# Altium schematic symbol library lib_eps.SchLib: 181 symbols (part 1 of 2)
Pins are listed as number, name and electrical type; pins without a type are passive.

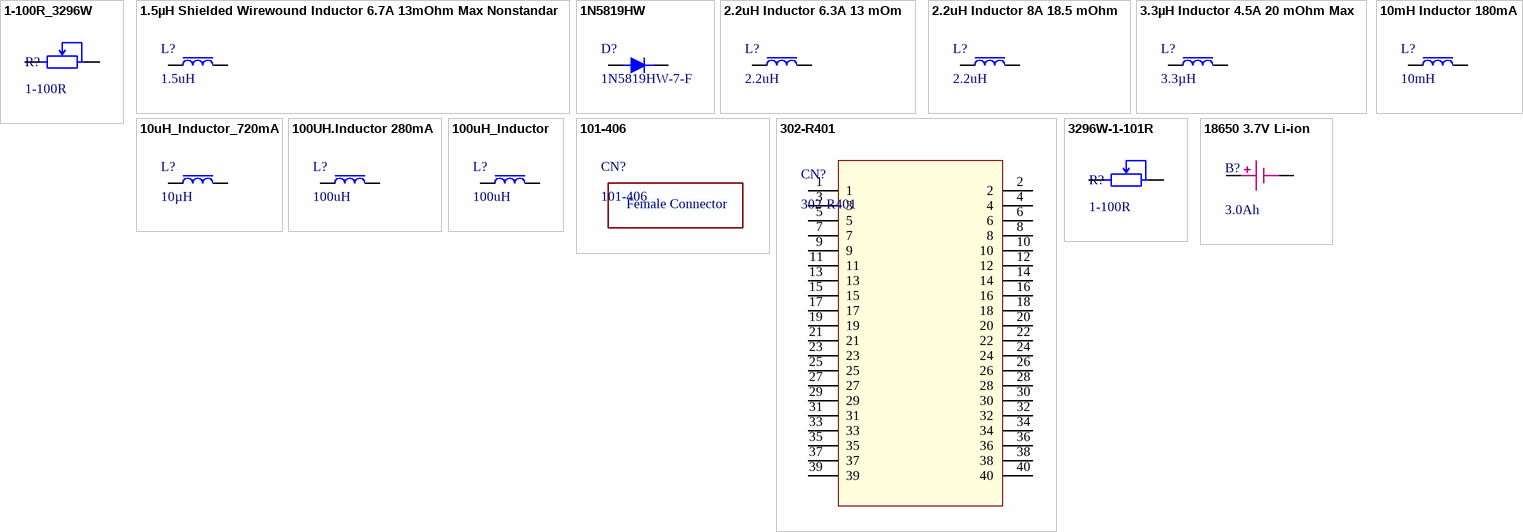
[diagram p0: symbols 1-100R_3296W to 18650 3.7V Li-ion]

## 1-100R_3296W
designator R?, comment 1-100R
TRIMMER 100 OHM 0.5W PC PIN TOP; Manufacturer: Bourns Inc.; Manufacturer Part Number: 3296W-1-101LF; Tolarance: 10%; Value: 1-100R; Supplier 1: Digi-Key; Supplier Part Number 1: 3296W-101LF-ND
footprint 3296W_POT (Rectangular - 0.375" x 0.190" Face x 0.395" H (9.53mm x 4.83mm x 10.03mm))
pins: 1, 2

## 1.5µH Shielded Wirewound Inductor 6.7A 13mOhm Max Nonstandard
designator L?, comment 1.5uH
FIXED IND 1.5UH 6.7A 13 MOHM SMD; Manufacturer: TDK Corporation; Manufacturer Part Number: VLP8040T-1R5N; Value: 1.5uH; Supplier 1: Digi-Key; Supplier Part Number 1: 445-6575-1-ND
footprint INDP8687X40N-(VLP8040 ) (Precision Wire Wound Inductor, 2-Leads, Body 8,60x8,70mm, IPC Medium Density)
pins: 1, 2

## 1N5819HW
designator D?, comment 1N5819HW-7-F
DIODE SCHOTTKY 40V 1A SOD123; Manufacturer: Diodes Incorporated; Manufacturer Part Number: 1N5819HW-7-F; Voltage - DC Reverse (Vr) (Max): 40V; Supplier 1: Digi-Key; Supplier Part Number 1: 1N5819HW-FDICT-ND; Current - Average Rectified (Io): 1A
footprint 1N5819HW_SODFL370X135-2N (SODFL, 2-Leads, Body 1,55x3,70mm, IPC Medium Density)
pins: 1, 2

## 2.2uH Inductor 6.3A 13 mOm
designator L?, comment 2.2uH
2.2µH Semi-Shielded Wirewound Inductor 6.3A 13 mOhm Max Nonstandard; Manufacturer: Bourns Inc.; Manufacturer Part Number: SRN8040-2R2Y; Value: 2.2uH; Supplier 1: Digi-Key; Supplier Part Number 1: SRN8040-2R2YCT-ND
footprint 2.2uF_6.3A (0.315" L x 0.315" W (8.00mm x 8.00mm) 6.3A)
pins: 1, 2

## 2.2uH Inductor 8A 18.5 mOhm
designator L?, comment 2.2uH
FIXED IND 2.2UH 8A 18.5 MOHM SMD; Manufacturer: Abracon LLC; Manufacturer Part Number: ASPI-0630LR-2R2M-T15; Value: 2.2uH; Supplier 1: Digi-Key; Supplier Part Number 1: ASPI-0630LR-2R2M-T15CT-ND
footprint 2.2uF_10A (0.283" L x 0.262" W (7.20mm x 6.65mm) 2.2UH 8A)
pins: 1, 2

## 3.3µH Inductor 4.5A 20 mOhm Max
designator L?, comment 3.3µH
FIXED IND 3.3UH 4.5A 20 MOHM SMD; Manufacturer: Bourns Inc.; Manufacturer Part Number: SDR0805-3R3ML; Value: 3.3µH; Supplier 1: Digi-Key; Supplier Part Number 1: SDR0805-3R3MLCT-ND
footprint SDR0805_3R3ML (3.3µH Unshielded Wirewound Inductor 4.5A 20 mOhm Max Nonstandard)
pins: 1, 2

## 10mH Inductor 180mA
designator L?, comment 10mH
10mH Shielded Wirewound Inductor 180mA 19.2 Ohm Max Nonstandard; Manufacturer: Bourns Inc.; Manufacturer Part Number: SRR1208-103KL; Value: 10mH; Supplier 1: Digi-Key; Supplier Part Number 1: SRR1208-103KLCT-ND
footprint IND10mH_12.7X12.7 (Precision Wire Wound Inductor, 2-Leads, Body 12,70x12,70mm, IPC Medium Density)
pins: 1, 2

## 10uH_Inductor_720mA
designator L?, comment 10µH
10µH Shielded Wirewound Inductor 720mA 324mOhm Max Nonstandard; Manufacturer: Taiyo Yuden; Manufacturer Part Number: NRH3012T100MN; Value: 10µH; Supplier 1: Digi-Key; Supplier Part Number 1: 587-2584-1-ND
footprint NRH3012T100MN (0.118" L x 0.118" W (3.00mm x 3.00mm))
pins: 1, 2

## 100UH.Inductor 280mA
designator L?, comment 100uH
100µH Inductor 280mA 1.74 Ohm Max Nonstandard; Manufacturer: Taiyo Yuden; Manufacturer Part Number: NRS4018T101MDGJ; Value: 100uH; Supplier 1: Digi-Key; Supplier Part Number 1: 587-6091-1-ND
footprint IND100uH_4040X18N (Precision Wire Wound Inductor, 2-Leads, Body 4,00x4,00mm, IPC Medium Density)
pins: 1, 2

## 100uH_Inductor
designator L?, comment 100uH
Inductors  650mA 100uH ±20% DCR 300 mOhm Max; Manufacturer: TDK; Manufacturer Part Number: SLF7045T-101MR50-PF; Value: 100uH; Supplier 1: LCSC; Supplier Part Number 1: C83827
footprint IND100uH_TDK (Precision Wire Wound Inductor, 2-Leads, Body 7,00x7,00mm, IPC Medium Density)
pins: 1, 2

## 101-406
designator CN?  (mechanical)
CONN SOCKET 40POS IDC GOLD; Manufacturer: On Shore Technology Inc.; Manufacturer Part Number: 101-406; Supplier 1: Digi-Key; Supplier Part Number 1: ED10507-ND
text: Female Connector

## 302-R401
designator CN?
CONN HEADER R/A 40POS 2.54MM; Manufacturer: On Shore Technology Inc.; Manufacturer Part Number: 302-R401; Supplier 1: Digi-Key; Supplier Part Number 1: ED10541-ND
footprint 302-R401 (CONN HEADER R/A 40POS 2.54MM)
pins: 1, 2, 3, 4, 5, 6, 7, 8, 9, 10, 11, 12, 13, 14, 15, 16, 17, 18, 19, 20, 21, 22, 23, 24, 25, 26, 27, 28, 29, 30, 31, 32, 33, 34, 35, 36, 37, 38, 39, 40

## 3296W-1-101R
designator R?, comment 1-100R
100 ±10% ±250ppm/℃ 3296W Precision Potentiometer RoH; Manufacturer: Chengdu Guosheng Tech; Manufacturer Part Number: 3296W-1-101; Value: 1-100R; Tolarance: 10%; Supplier 1: LCSC; Supplier Part Number 1: C118961
footprint 3296W_POT (Rectangular - 0.375" x 0.190" Face x 0.395" H (9.53mm x 4.83mm x 10.03mm))
pins: 1, 2

## 18650 3.7V Li-ion
designator B?, comment 3.0Ah
18650 3.7V Lithium-Ion Battery Rechargeable (Secondary) 2.6Ah; Manufacturer: Litokala; Manufacturer Part Number: Litokala_HG2; Voltage: 3.7V; Capacity: 3.0Ah; Battery Chemistry: Lithium-Ion; Supplier 1: Aliexpress; Supplier Part Number 1: 490-10517-2-ND
footprint BAT18650 1S
footprint BAT18650 1S-MSL
pins: 1, 2

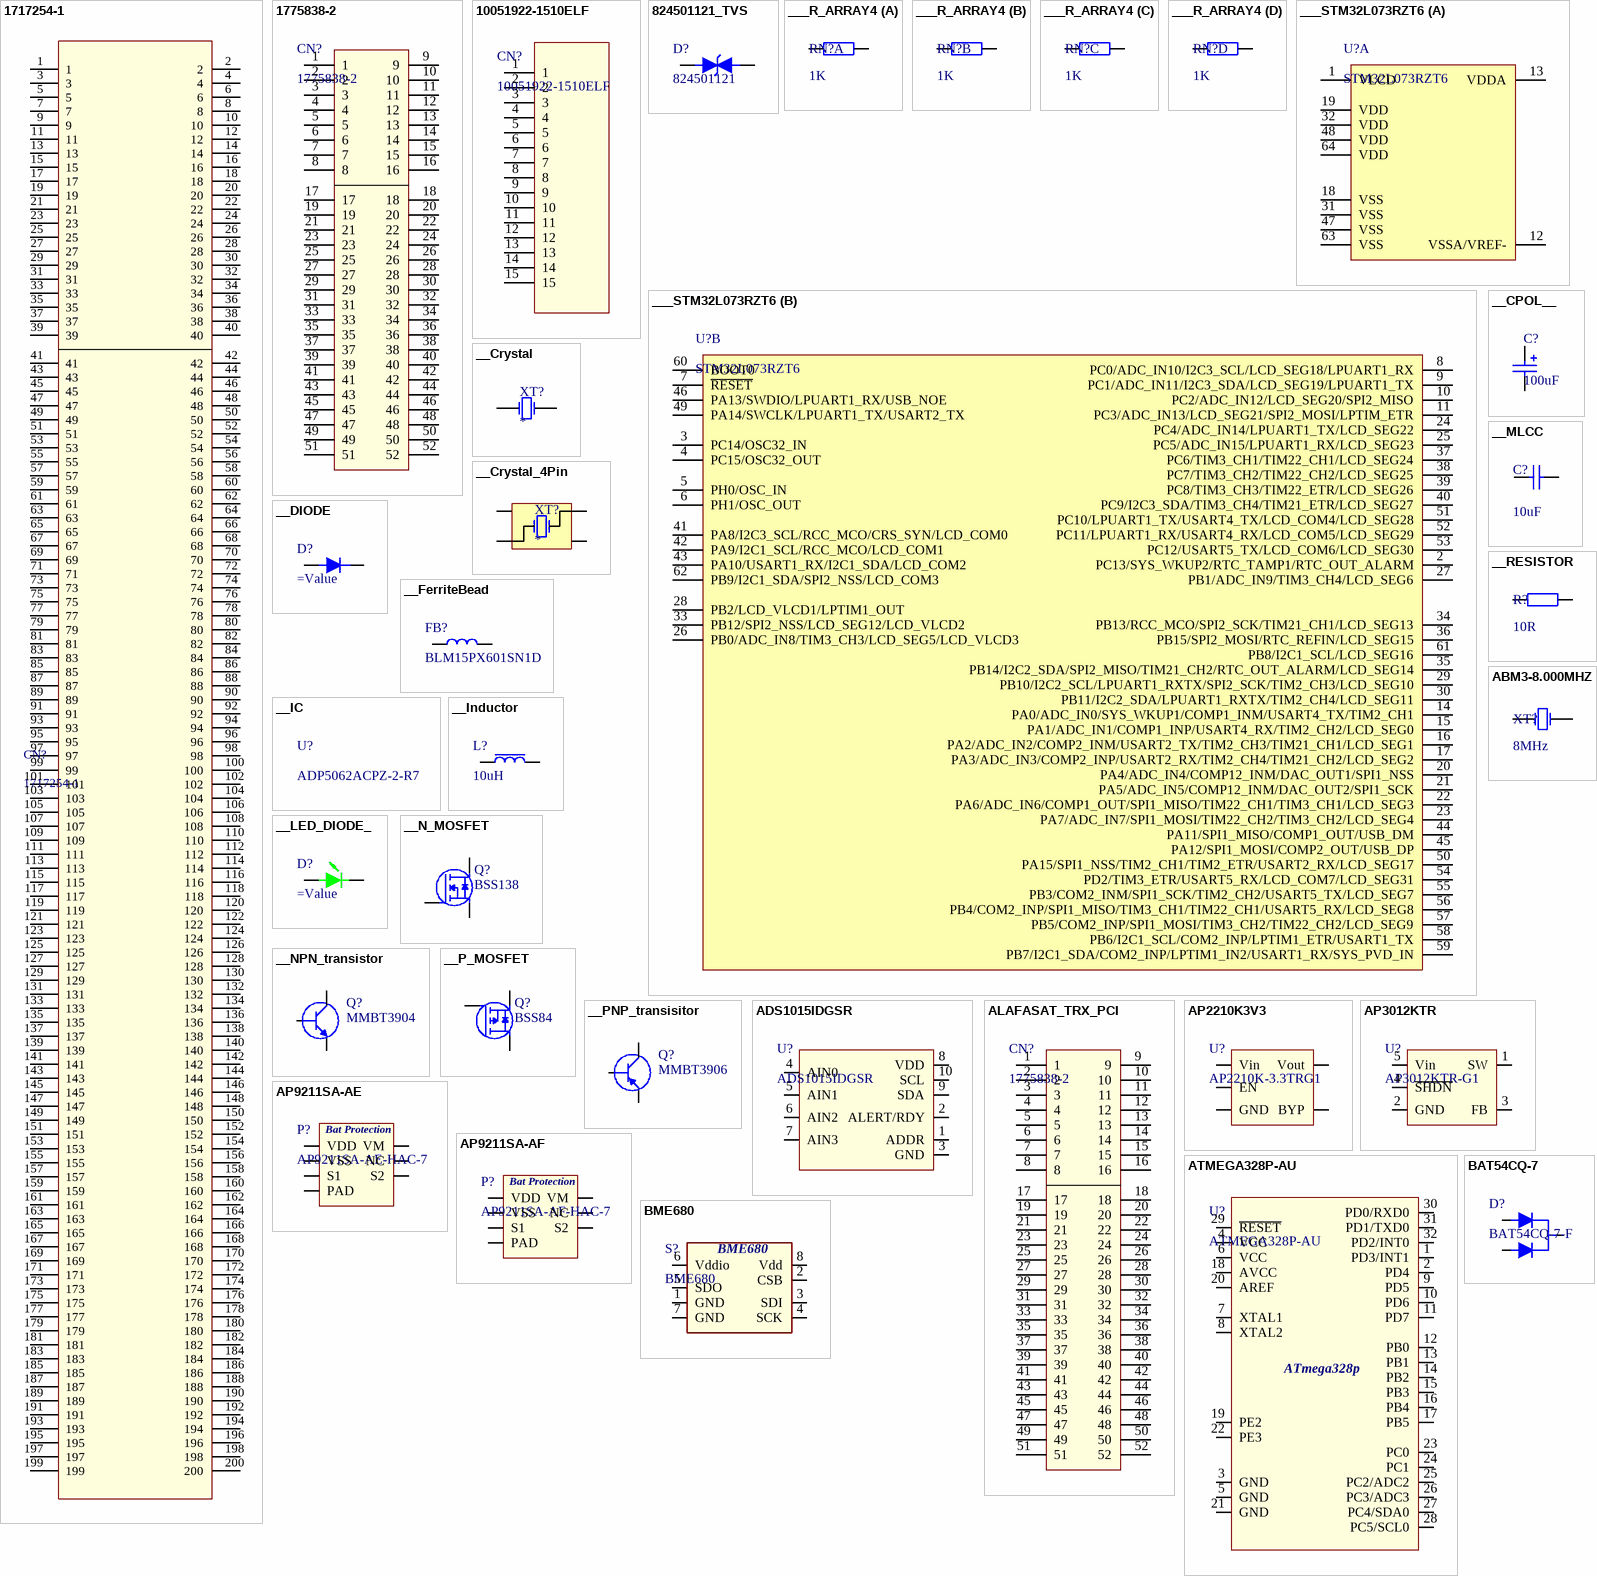
[diagram p1: symbols 1717254-1 to BME680]

## 1717254-1
designator CN?
CONN SKT SODIMM 200POS R/A SMD; Manufacturer: TE Connectivity AMP Connectors; Manufacturer Part Number: 1717254-1; Supplier 1: Digi-Key; Supplier Part Number 1: A111047CT-ND
footprint 1717254-1 (CONN SKT SODIMM 200POS R/A SMD)
pins: 1, 2, 3, 4, 5, 6, 7, 8, 9, 10, 11, 12, 13, 14, 15, 16, 17, 18, 19, 20, 21, 22, 23, 24, 25, 26, 27, 28, 29, 30, 31, 32, 33, 34, 35, 36, 37, 38, 39, 40, 41, 42, 43, 44, 45, 46, 47, 48, 49, 50, 51, 52, 53, 54, 55, 56, 57, 58, 59, 60, 61, 62, 63, 64, 65, 66, 67, 68, 69, 70, 71, 72, 73, 74, 75, 76, 77, 78, 79, 80, 81, 82, 83, 84, 85, 86, 87, 88, 89, 90, 91, 92, 93, 94, 95, 96, 97, 98, 99, 100, 101, 102, 103, 104, 105, 106, 107, 108, 109, 110, 111, 112, 113, 114, 115, 116, 117, 118, 119, 120, 121, 122, 123, 124, 125, 126, 127, 128, 129, 130, 131, 132, 133, 134, 135, 136, 137, 138, 139, 140, 141, 142, 143, 144, 145, 146, 147, 148, 149, 150, 151, 152, 153, 154, 155, 156, 157, 158, 159, 160, 161, 162, 163, 164, 165, 166, 167, 168, 169, 170, 171, 172, 173, 174, 175, 176, 177, 178, 179, 180, 181, 182, 183, 184, 185, 186, 187, 188, 189, 190, 191, 192, 193, 194, 195, 196, 197, 198, 199, 200

## 1775838-2
designator CN?
CONN PCI EXP MINI FEMALE 52POS; Manufacturer: TE Connectivity AMP Connectors; Manufacturer Part Number: 1775838-2; Supplier 1: Digi-Key; Supplier Part Number 1: A123340CT-ND
footprint 1775838-2 (CONN PCI EXP MINI FEMALE 52POS)
pins: 1, 2, 3, 4, 5, 6, 7, 8, 9, 10, 11, 12, 13, 14, 15, 16, 17, 18, 19, 20, 21, 22, 23, 24, 25, 26, 27, 28, 29, 30, 31, 32, 33, 34, 35, 36, 37, 38, 39, 40, 41, 42, 43, 44, 45, 46, 47, 48, 49, 50, 51, 52

## 10051922-1510ELF
designator CN?
CONN FPC BOTTOM 15POS 0.50MM R/A; Manufacturer: Amphenol ICC (FCI); Manufacturer Part Number: 10051922-1510ELF; Supplier 1: Digi-Key; Supplier Part Number 1: 609-1238-1-ND
footprint 10051922-1510ELF (CONN FPC BOTTOM 15POS 0.50MM R/A)
pins: 1, 2, 3, 4, 5, 6, 7, 8, 9, 10, 11, 12, 13, 14, 15

## 824501121_TVS
designator D?, comment 824501121
TVS DIODE 12V 19.9V DO214AC; Manufacturer: Wurth Electronics Inc.; Voltage - Reverse Standoff (Typ): 12V (Max); Current - Average Rectified (Io): 1A; Manufacturer Part Number: 824501121; Supplier 1: Digi-Key; Supplier Part Number 1: 732-9949-1-ND
footprint DIOM4227X25N (Molded Diode, 2-Leads, Body 4,24x2,67mm, IPC Medium Density)
pins: 1, 2

## ___R_ARRAY4
designator RN?, comment 1K
Resistor x4 Array; Value: 1K; Tolarance: *; Manufacturer: *; Manufacturer Part Number: *
part A pins: 1, 8
part B pins: 2, 7
part C pins: 3, 6
part D pins: 4, 5

## ___STM32L073RZT6
designator U?, comment STM32L073RZT6
Ultra-low-power 32-bit MCU ARM®-based Cortex®-M0+; Manufacturer: ST; SRAM: 20KB; FLASH: 192KB; Manufacturer Part Number: STM32L073RZT6; Supplier 1: Digi-Key; Supplier Part Number 1: 497-16270-ND
part A pins: 1 VLCD (power), 12 VSSA/VREF- (power), 13 VDDA (power), 18 VSS (power), 19 VDD (power), 31 VSS (power), 32 VDD (power), 47 VSS (power), 48 VDD (power), 63 VSS (power), 64 VDD (power)
part B pins: 2 PC13/SYS_WKUP2/RTC_TAMP1/RTC_OUT_ALARM, 3 PC14/OSC32_IN, 4 PC15/OSC32_OUT, 5 PH0/OSC_IN, 6 PH1/OSC_OUT, 7 ~{RESET}, 8 PC0/ADC_IN10/I2C3_SCL/LCD_SEG18/LPUART1_RX, 9 PC1/ADC_IN11/I2C3_SDA/LCD_SEG19/LPUART1_TX, 10 PC2/ADC_IN12/LCD_SEG20/SPI2_MISO, 11 PC3/ADC_IN13/LCD_SEG21/SPI2_MOSI/LPTIM_ETR, 14 PA0/ADC_IN0/SYS_WKUP1/COMP1_INM/USART4_TX/TIM2_CH1, 15 PA1/ADC_IN1/COMP1_INP/USART4_RX/TIM2_CH2/LCD_SEG0, 16 PA2/ADC_IN2/COMP2_INM/USART2_TX/TIM2_CH3/TIM21_CH1/LCD_SEG1, 17 PA3/ADC_IN3/COMP2_INP/USART2_RX/TIM2_CH4/TIM21_CH2/LCD_SEG2, 20 PA4/ADC_IN4/COMP12_INM/DAC_OUT1/SPI1_NSS, 21 PA5/ADC_IN5/COMP12_INM/DAC_OUT2/SPI1_SCK, 22 PA6/ADC_IN6/COMP1_OUT/SPI1_MISO/TIM22_CH1/TIM3_CH1/LCD_SEG3, 23 PA7/ADC_IN7/SPI1_MOSI/TIM22_CH2/TIM3_CH2/LCD_SEG4, 24 PC4/ADC_IN14/LPUART1_TX/LCD_SEG22, 25 PC5/ADC_IN15/LPUART1_RX/LCD_SEG23, 26 PB0/ADC_IN8/TIM3_CH3/LCD_SEG5/LCD_VLCD3, 27 PB1/ADC_IN9/TIM3_CH4/LCD_SEG6, 28 PB2/LCD_VLCD1/LPTIM1_OUT, 29 PB10/I2C2_SCL/LPUART1_RXTX/SPI2_SCK/TIM2_CH3/LCD_SEG10, 30 PB11/I2C2_SDA/LPUART1_RXTX/TIM2_CH4/LCD_SEG11, 33 PB12/SPI2_NSS/LCD_SEG12/LCD_VLCD2, 34 PB13/RCC_MCO/SPI2_SCK/TIM21_CH1/LCD_SEG13, 35 PB14/I2C2_SDA/SPI2_MISO/TIM21_CH2/RTC_OUT_ALARM/LCD_SEG14, 36 PB15/SPI2_MOSI/RTC_REFIN/LCD_SEG15, 37 PC6/TIM3_CH1/TIM22_CH1/LCD_SEG24, 38 PC7/TIM3_CH2/TIM22_CH2/LCD_SEG25, 39 PC8/TIM3_CH3/TIM22_ETR/LCD_SEG26, 40 PC9/I2C3_SDA/TIM3_CH4/TIM21_ETR/LCD_SEG27, 41 PA8/I2C3_SCL/RCC_MCO/CRS_SYN/LCD_COM0, 42 PA9/I2C1_SCL/RCC_MCO/LCD_COM1, 43 PA10/USART1_RX/I2C1_SDA/LCD_COM2, 44 PA11/SPI1_MISO/COMP1_OUT/USB_DM, 45 PA12/SPI1_MOSI/COMP2_OUT/USB_DP, 46 PA13/SWDIO/LPUART1_RX/USB_NOE, 49 PA14/SWCLK/LPUART1_TX/USART2_TX, 50 PA15/SPI1_NSS/TIM2_CH1/TIM2_ETR/USART2_RX/LCD_SEG17, 51 PC10/LPUART1_TX/USART4_TX/LCD_COM4/LCD_SEG28, 52 PC11/LPUART1_RX/USART4_RX/LCD_COM5/LCD_SEG29, 53 PC12/USART5_TX/LCD_COM6/LCD_SEG30, 54 PD2/TIM3_ETR/USART5_RX/LCD_COM7/LCD_SEG31, 55 PB3/COM2_INM/SPI1_SCK/TIM2_CH2/USART5_TX/LCD_SEG7, 56 PB4/COM2_INP/SPI1_MISO/TIM3_CH1/TIM22_CH1/USART5_RX/LCD_SEG8, 57 PB5/COM2_INP/SPI1_MOSI/TIM3_CH2/TIM22_CH2/LCD_SEG9, 58 PB6/I2C1_SCL/COM2_INP/LPTIM1_ETR/USART1_TX, 59 PB7/I2C1_SDA/COM2_INP/LPTIM1_IN2/USART1_RX/SYS_PVD_IN, 60 BOOT0, 61 PB8/I2C1_SCL/LCD_SEG16, 62 PB9/I2C1_SDA/SPI2_NSS/LCD_COM3

## __CPOL__
designator C?, comment 100uF
CAP ALUM 100UF 20% 16V SMD; Manufacturer: Panasonic Electronic Components; Manufacturer Part Number: EEE-HC1C101XP; Dielectric: X7R; Voltage: 16V; Value: 100uF; Supplier 1: Digi-Key; Supplier Part Number 1: PCE3750CT-ND
footprint CAPAE7866X77_100uF16V (Aluminum Electrolytic Capacitor, Body 6,60x6,60x7,70mm, IPC Low Density)
pins: 1, 2

## __Crystal
designator XT?
Crystal; Manufacturer: *; Manufacturer Part Number: *; Type: *; Value: *
footprint HC49/US (HC/49US (AT49) SMD LOW PROFILE CRYSTAL)
footprint HC49/U (HC/49U TH LOW PROFILE CRYSTAL)
pins: 1 OSC1, 2 OSC2

## __Crystal_4Pin
designator XT?
__CRYSTAL 4 Pin/Pad; Manufacturer Part Number: *; Type: *; Value: *; Manufacturer: *
footprint 3.2x2.5_4pad_smd (3.2x2.5mm 4Pad SMD)
footprint 6.0X3.5_4PAD_SMT (6.0mm x 3.5mm Oscillator)
pins: 1 OSC1, 2 NC, 3 OSC2, 4 NC

## __DIODE
designator D?
DIODE GEN PURP 600V 1A SMA; Manufacturer: ON Semiconductor; Manufacturer Part Number: RS1J; Reverse Recovery Time (trr): 250ns; Voltage - DC Reverse (Vr) (Max): 600V; Supplier 1: Digi-Key; Supplier Part Number 1: RS1JFSCT-ND; Current - Average Rectified (Io): 1A
footprint RS1J-DFN (DFN, 2-Leads, Body 2,67x4,25mm, Pitch 3,76mm, IPC Medium Density)
pins: 1, 2

## __FerriteBead
designator FB?, comment BLM15PX601SN1D
FERRITE BEAD 600R@100MHz 0402 for Power Line, 900mA; Manufacturer: muRata; Manufacturer Part Number: BLM15PX601SN1D; Supplier 1: Digi-Key; Supplier Part Number 1: 490-9657-2-ND
pins: 1, 2

## __IC
designator U?, comment ADP5062ACPZ-2-R7
Linear Li-Ion Battery Charger with Power Path and USB Compatibility in LFCSP; Manufacturer: Analog Devices; Manufacturer Part Number: ADP5062ACPZ-2-R7; Supplier 1: Digi-Key; Supplier Part Number 1: ADP5062ACPZ-2-R7TR-ND

## __Inductor
designator L?, comment 10uH
Inductor 10uH 1.9A 84.5mOhm; Manufacturer: Taiyo Yuden; Manufacturer Part Number: NR6028T100M; Value: 10uH; Supplier 1: Digi-Key; Supplier Part Number 1: 587-2102-2-ND
pins: 1, 2

## __LED_DIODE_
designator D?
Green  LED Indication; Manufacturer: ON Semiconductor; Manufacturer Part Number: RS1J; Voltage - Forward (Vf) (Typ): 2.1V; Current - Test: 20mA; Supplier 1: Digi-Key; Supplier Part Number 1: RS1JFSCT-ND
footprint RS1J-DFN (DFN, 2-Leads, Body 2,67x4,25mm, Pitch 3,76mm, IPC Medium Density)
pins: 1, 2 K

## __MLCC
designator C?, comment 10uF
0805 10uF 10V X7R MLCC; Manufacturer: muRata; Manufacturer Part Number: GRM21BR71A106MA73L; Voltage: 10V; Value: 10uF; Dielectric: X7R; Supplier 1: Digi-Key; Supplier Part Number 1: 490-10517-2-ND
pins: 1, 2

## __N_MOSFET
designator Q?, comment BSS138
N-Channel Logic Level Enhancement Mode Field Effect Transistor; Manufacturer: Diodes Inc.; Manufacturer Part Number: BSS138; Supplier 1: Digi-Key; Supplier Part Number 1: BSS138-FDICT-ND
footprint SOT23 (SOT23, 3-Leads, Body 2,90x2,30mm, Pitch 0,95mm, IPC Medium Density)
pins: 1 G, 2 S, 3 D

## __NPN_transistor
designator Q?, comment MMBT3904
NPN General Purpose Transistor; Manufacturer: ON Semi.; Manufacturer Part Number: MMBT3904; Supplier 1: Digi-Key; Supplier Part Number 1: MMBT3904LT3GOSTR-ND
pins: 1 B, 2 E, 3 C

## __P_MOSFET
designator Q?, comment BSS84
P-channel enhancement mode vertical DMOS transistor; Manufacturer: Diodes Inc.; Manufacturer Part Number: BSS84; Supplier 1: Digi-Key; Supplier Part Number 1: BSS84-FDICT-ND
footprint SOT23 (SOT23, 3-Leads, Body 2,90x2,30mm, Pitch 0,95mm, IPC Medium Density)
pins: 1 G, 2 S, 3 D

## __PNP_transisitor
designator Q?, comment MMBT3906
PNP General Purpose Transistor; Manufacturer: ON Semi.; Manufacturer Part Number: MMBT3906; Supplier 1: Digi-Key; Supplier Part Number 1: MMBT3906LT1GOSTR-ND
pins: 1 B, 2 E, 3 C

## __RESISTOR
designator R?, comment 10R
2512 10R 1% Resistor; Manufacturer: Yageo; Manufacturer Part Number: RC2512FK-0710RL; Value: 10R; Tolarance: 1%; Supplier 1: Digi-Key; Supplier Part Number 1: YAG3389TR-ND
pins: 1, 2

## ABM3-8.000MHZ
designator XT?, comment 8MHz
8MHz ±20ppm Crystal 18pF 140 Ohms 2-SMD, No Lead; Manufacturer: Abracon LLC; Manufacturer Part Number: ABM3-8.000MHZ-D2Y-T; Frequency: 8MHz; Tolarance: ±20ppm; Supplier 1: Digi-Key; Supplier Part Number 1: 535-10630-1-ND
footprint ABM3_8MHz (CRYSTAL 8.0000MHZ 18PF SMD)
pins: 1 OSC1, 2 OSC2

## ADS1015IDGSR
designator U?
12 Bit Analog to Digital Converter 2, 4 Input 1 Sigma-Delta 10-VSSOP; Manufacturer: Texas Instruments; Manufacturer Part Number: ADS1015IDGSR; Supplier 1: Digi-Key; Supplier Part Number 1: 296-41185-1-ND
footprint TSSOP50P490X110_ADS1015 (TSSOP, 10-Leads, Body 3,00x3,00mm, Pitch 0,50mm, IPC Medium Density)
pins: 1 ADDR, 2 ALERT/RDY, 3 GND, 4 AIN0, 5 AIN1, 6 AIN2, 7 AIN3, 8 VDD, 9 SDA, 10 SCL

## ALAFASAT_TRX_PCI
designator CN?, comment 1775838-2
CONN PCI EXP MINI FEMALE 52POS; Manufacturer: TE Connectivity AMP Connectors; Manufacturer Part Number: 1775838-2; Supplier 1: Digi-Key; Supplier Part Number 1: A123340CT-ND
footprint 1775838-2 (CONN PCI EXP MINI FEMALE 52POS)
footprint 1775838-2 + TRX (CONN PCI EXP MINI FEMALE 52POS)
pins: 1, 2, 3, 4, 5, 6, 7, 8, 9, 10, 11, 12, 13, 14, 15, 16, 17, 18, 19, 20, 21, 22, 23, 24, 25, 26, 27, 28, 29, 30, 31, 32, 33, 34, 35, 36, 37, 38, 39, 40, 41, 42, 43, 44, 45, 46, 47, 48, 49, 50, 51, 52

## AP2210K3V3
designator U?, comment AP2210K-3.3TRG1
Linear Voltage Regulator IC Positive Fixed 1 Output  300mA SOT-23-5; Manufacturer: Diodes Incorporated; Manufacturer Part Number: AP2210K-3.3TRG1; Supplier 1: Digi-Key; Supplier Part Number 1: AP2210K-3.3TRG1DICT-ND
footprint AP2210_SOT95P282X145 (SOT23, 5-Leads, Body 2,96x2,82mm, Pitch 0,95mm, IPC Medium Density)
pins: 1 Vin, 2 GND, 3 EN, 4 BYP, 5 Vout

## AP3012KTR
designator U?, comment AP3012KTR-G1
Boost Switching Regulator IC Positive Adjustable 1.25V 1 Output 500mA (Switch) SC-74A, SOT-753; Manufacturer: Diodes Incorporated; Manufacturer Part Number: AP3012KTR-G1; Supplier 1: Digi-Key; Supplier Part Number 1: AP3012KTR-G1DICT-ND
footprint AP3012_SOT95P280X145-5N (SOT23, 5-Leads, Body 2,92x2,80mm, Pitch 0,95mm, IPC Medium Density)
pins: 1 SW, 2 GND, 3 FB, 4 ~{SHDN}, 5 Vin

## AP9211SA-AE
designator P?, comment AP9211SA-AE-HAC-7
Battery Battery Protection IC Lithium-Ion U-DFN2030-6 (Type C); Manufacturer: Diodes Incorporated; Manufacturer Part Number: AP9211SA-AE-HAC-7; Supplier 1: Digi-Key; Supplier Part Number 1: AP9211SA-AE-HAC-7DICT-ND
footprint U-DFN2030-6 (Type C) (IC BATT PROTECTION LI-ION 6UDFN)
pins: 1 S1, 2 VSS, 3 VDD, 4 NC, 5 VM, 6 S2, 7 PAD
text: Bat Protection

## AP9211SA-AF
designator P?, comment AP9211SA-AF-HAC-7
Battery Battery Protection IC Lithium-Ion U-DFN2030-6 (Type C); Manufacturer: Diodes Incorporated; Manufacturer Part Number: AP9211SA-AF-HAC-7; Supplier 1: Digi-Key; Supplier Part Number 1: AP9211SA-AF-HAC-7DICT-ND
footprint U-DFN2030-6 (Type C) (IC BATT PROTECTION LI-ION 6UDFN)
pins: 1 S1, 2 VSS, 3 VDD, 4 NC, 5 VM, 6 S2, 7 PAD
text: Bat Protection

## ATMEGA328P-AU
designator U?
AVR AVR® ATmega Microcontroller IC 8-Bit 20MHz 32KB (16K x 16) FLASH 32-TQFP (7x7); Manufacturer: Microchip Technology; SRAM: 2K x 8; Manufacturer Part Number: ATMEGA328P-AU; FLASH: 32KB (16K x 16); Supplier 1: Digi-Key; Supplier Part Number 1: ATMEGA328P-AU-ND
footprint ATmega328P_TQFP80P900X900X120-32N (TQFP, 32-Leads, Body 7,00x7,00mm, Pitch 0,80mm, IPC Medium Density)
pins: 1 PD3/INT1, 2 PD4, 3 GND, 4 VCC, 5 GND, 6 VCC, 7 XTAL1, 8 XTAL2, 9 PD5, 10 PD6, 11 PD7, 12 PB0, 13 PB1, 14 PB2, 15 PB3, 16 PB4, 17 PB5, 18 AVCC, 19 PE2, 20 AREF, 21 GND, 22 PE3, 23 PC0, 24 PC1, 25 PC2/ADC2, 26 PC3/ADC3, 27 PC4/SDA0, 28 PC5/SCL0, 29 ~{RESET}, 30 PD0/RXD0, 31 PD1/TXD0, 32 PD2/INT0
text: ATmega328p

## BAT54CQ-7
designator D?, comment BAT54CQ-7-F
Diode Schottky 30V 200mA Surface Mount SOT-23(ISL9237); Manufacturer: Diodes Incorporated; Reverse Recovery Time (trr): 5ns; Manufacturer Part Number: BAT54CQ-7-F; Voltage - DC Reverse (Vr) (Max): 30V; Supplier 1: Digi-Key; Supplier Part Number 1: BAT54CQ-7-FDICT-ND; Current - Average Rectified (Io): 200mA
footprint BAT54C_SOT23 (SOT23, 3-Leads, Body 2,90x2,40mm, Pitch 0,90mm, IPC Medium Density)
pins: 1, 2, 3

## BME680
designator S?
Gas, Humidity, Pressure, Temperature Sensor I²C, SPI Output; Manufacturer: Bosch Sensortec; Manufacturer Part Number: BME680; Supplier 1: Digi-Key; Supplier Part Number 1: 828-1077-1-ND
footprint BME680 (SENSOR RH PRESSURE TEMP VOC)
pins: 1 GND, 2 CSB, 3 SDI, 4 SCK, 5 SDO, 6 Vddio, 7 GND , 8 Vdd

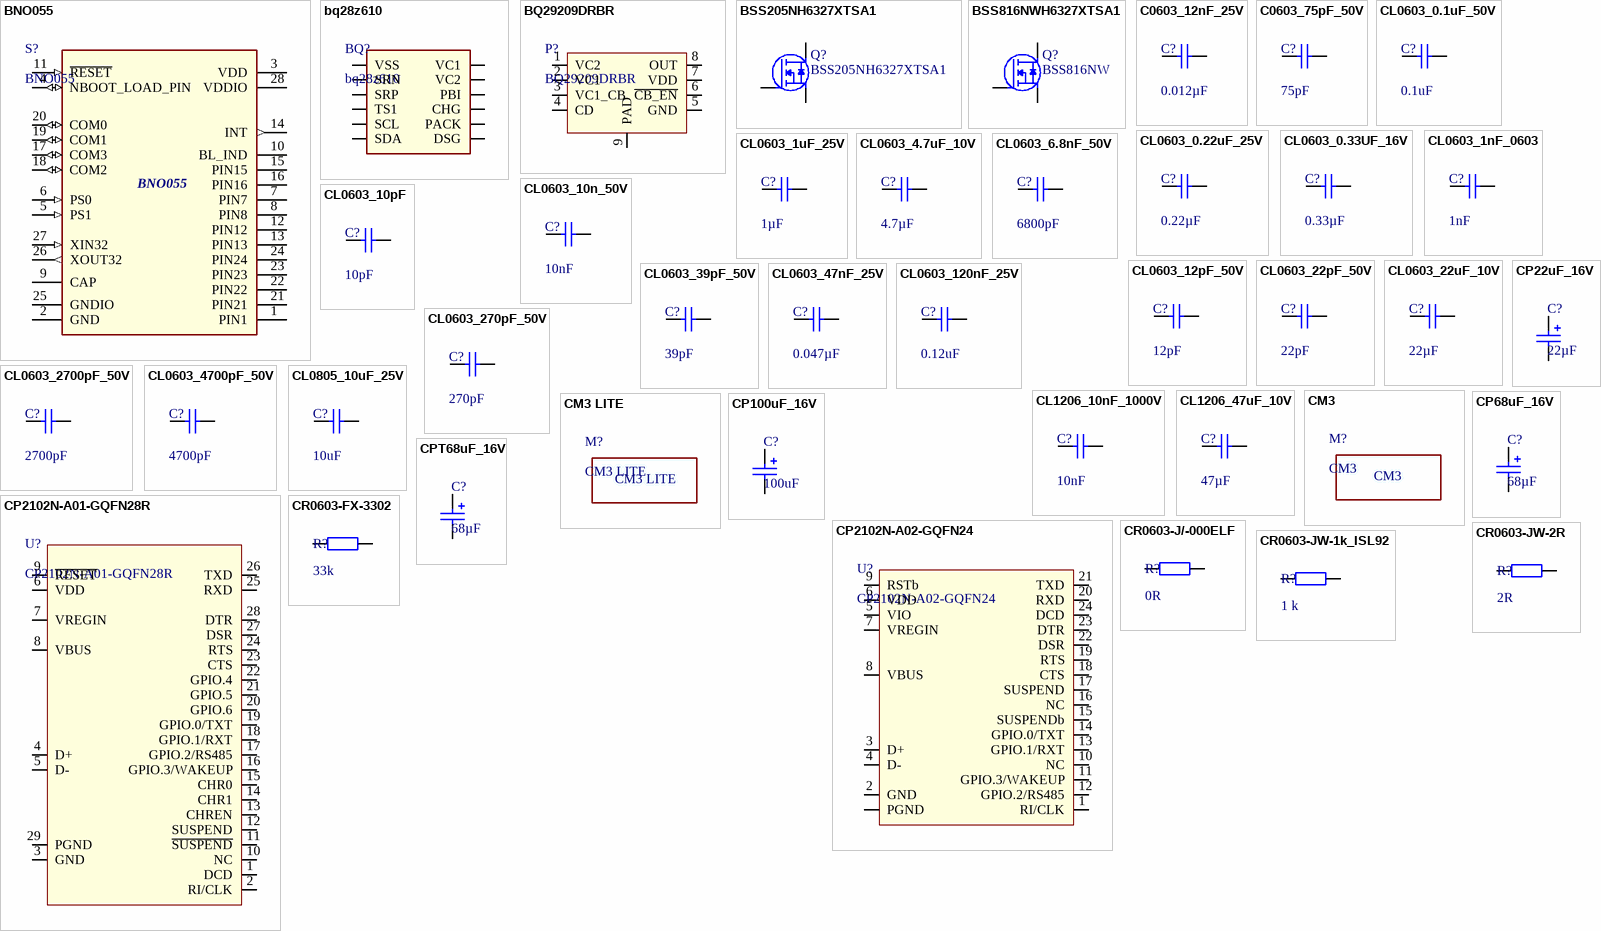
[diagram p2: symbols BNO055 to CR0603-JW-2R]

## BNO055
designator S?
Accelerometer, Gyroscope, Magnetometer, 3 Axis Sensor I²C, UART Output; Manufacturer: Bosch Sensortec; Manufacturer Part Number: BNO055; Supplier 1: Digi-Key; Supplier Part Number 1: 828-1058-1-ND
footprint BNO055_LGA28R50P4X10_380X520X100
footprint BNO055_PLG (PQFN, 28-Leads, Body 5,20x3,80mm, Pitch 0,50mm, IPC Medium Density)
pins: 1 PIN1, 2 GND, 3 VDD, 4 NBOOT_LOAD_PIN (io), 5 PS1 (in), 6 PS0 (in), 7 PIN7, 8 PIN8, 9 CAP, 10 BL_IND, 11 ~{RESET} (in), 12 PIN12, 13 PIN13, 14 INT (out), 15 PIN15, 16 PIN16, 17 COM3 (io), 18 COM2 (io), 19 COM1 (io), 20 COM0 (io), 21 PIN21, 22 PIN22, 23 PIN23, 24 PIN24, 25 GNDIO, 26 XOUT32 (out), 27 XIN32 (in), 28 VDDIO

## bq28z610
designator BQ?
Gas Gauge and Protection Solution
footprint bq28z610
pins: 1 VSS, 2 SRN, 3 SRP, 4 TS1, 5 SCL, 6 SDA, 7 DSG, 8 PACK, 9 CHG, 10 PBI, 11 VC2, 12 VC1

## BQ29209DRBR
designator P?
Battery Battery Protection IC Lithium-Ion 8-SON (3x3); Manufacturer: Texas Instruments; Manufacturer Part Number: BQ29209DRBR; Supplier 1: Digi-Key; Supplier Part Number 1: 296-27677-1-ND
footprint bq29209_SON65P300X100_HS-9N (SON, 8-Leads, Body 3,00x3,00mm, Pitch 0,65mm, Thermal Pad 2,40x1,49mm, IPC Medium Density)
pins: 1 VC2, 2 VC1, 3 VC1_CB, 4 CD, 5 GND, 6 ~{CB_EN}, 7 VDD, 8 OUT, 9 PAD

## BSS205NH6327XTSA1
designator Q?
N-Channel 20V 2.5A (Ta) 500mW (Ta) Surface Mount SOT-23-3; Manufacturer: Infineon Technologies; Manufacturer Part Number: BSS205NH6327XTSA1; Supplier 1: Digi-Key; Supplier Part Number 1: BSS205NH6327XTSA1CT-ND
footprint SOT23 (SOT23, 3-Leads, Body 2,90x2,30mm, Pitch 0,95mm, IPC Medium Density)
pins: 1 G, 2 S, 3 D

## BSS816NWH6327XTSA1
designator Q?, comment BSS816NW
N-Channel Logic Level Enhancement Mode Field Effect Transistor; Manufacturer: Infineon Technologies; Manufacturer Part Number: BSS816NW; Supplier 1: Digi-Key; Supplier Part Number 1: BSS816NWH6327XTSA1CT-ND
footprint SOT323 (SOT23, 3-Leads, Body 2.00x2.10mm, Pitch 0.65mm, IPC High Density)
pins: 1 G, 2 S, 3 D

## C0603_12nF_25V
designator C?, comment 0.012µF
CAP CER 0.012UF 25V C0G/NP0 0603; Manufacturer: KEMET; Manufacturer Part Number: C0603C123J3GACTU; Dielectric: X7R; Voltage: 25V; Value: 0.012µF; Supplier 1: Digi-Key; Supplier Part Number 1: 399-8997-1-ND
footprint C0603_IPC_HD (Chip Capacitor, 2-Leads, Body 1,60x0,80mm, IPC High Density)
pins: 1, 2

## C0603_75pF_50V
designator C?, comment 75pF
CAP CER 75PF 50V C0G/NP0 0603; Manufacturer: Samsung Electro-Mechanics; Manufacturer Part Number: CL10C750JB8NNNC; Dielectric: X7R; Voltage: 50V; Value: 75pF; Supplier 1: Digi-Key; Supplier Part Number 1: 1276-2335-1-ND
footprint C0603_IPC_HD (Chip Capacitor, 2-Leads, Body 1,60x0,80mm, IPC High Density)
pins: 1, 2

## CL0603_0.1uF_50V
designator C?, comment 0.1uF
0.1µF ±10% 50V Ceramic Capacitor X7R 0603 (1608 Metric); Manufacturer: Samsung Electro-Mechanics; Manufacturer Part Number: CL10B104KB8NNNC; Voltage: 50V; Value: 0.1uF; Dielectric: X7R; Supplier 1: Digi-Key; Supplier Part Number 1: 1276-1000-1-ND
footprint C0603_IPC_MD (Chip Capacitor, 2-Leads, Body 1,60x0,80mm, IPC Medium Density)
footprint C0603_IPC_HD (Chip Capacitor, 2-Leads, Body 1,60x0,80mm, IPC High Density)
pins: 1, 2

## CL0603_0.22uF_25V
designator C?, comment 0.22µF
0.22µF ±10% 25V Ceramic Capacitor X7R 0603 (1608 Metric); Manufacturer: Wurth Electronics Inc.; Manufacturer Part Number: 885012206073; Voltage: 25V; Value: 0.22µF; Dielectric: X7R; Supplier 1: Digi-Key; Supplier Part Number 1: 732-7991-1-ND
footprint C0603_IPC_MD (Chip Capacitor, 2-Leads, Body 1,60x0,80mm, IPC Medium Density)
footprint C0603_IPC_HD (Chip Capacitor, 2-Leads, Body 1,60x0,80mm, IPC High Density)
pins: 1, 2

## CL0603_0.33UF_16V
designator C?, comment 0.33µF
0.33µF ±20% 16V Ceramic Capacitor X5R 0603 (1608 Metric); Manufacturer: Wurth Electronics Inc.; Manufacturer Part Number: 885012106014; Voltage: 16V; Value: 0.33µF; Dielectric: X5R; Supplier 1: Digi-Key; Supplier Part Number 1: 732-7911-1-ND
footprint C0603_IPC_MD (Chip Capacitor, 2-Leads, Body 1,60x0,80mm, IPC Medium Density)
footprint C0603_IPC_HD (Chip Capacitor, 2-Leads, Body 1,60x0,80mm, IPC High Density)
pins: 1, 2

## CL0603_1nF_0603
designator C?, comment 1nF
CAP CER 1000PF 50V X7R 0603; Manufacturer: Samsung Electro-Mechanics; Manufacturer Part Number: CL10B102KB8NNNC; Voltage: 50V; Value: 1nF; Dielectric: X7R; Supplier 1: Digi-Key; Supplier Part Number 1: 1276-1018-1-ND
footprint C0603_IPC_MD (Chip Capacitor, 2-Leads, Body 1,60x0,80mm, IPC Medium Density)
footprint C0603_IPC_HD (Chip Capacitor, 2-Leads, Body 1,60x0,80mm, IPC High Density)
pins: 1, 2

## CL0603_1uF_25V
designator C?, comment 1µF
1µF ±10% 25V Ceramic Capacitor X7R 0603 (1608 Metric); Manufacturer: Samsung Electro-Mechanics; Manufacturer Part Number: CL10B105KA8NNNC; Voltage: 25V; Value: 1µF; Dielectric: X7R; Supplier 1: Digi-Key; Supplier Part Number 1: 1276-1184-1-ND
footprint C0603_IPC_MD (Chip Capacitor, 2-Leads, Body 1,60x0,80mm, IPC Medium Density)
footprint C0603_IPC_HD (Chip Capacitor, 2-Leads, Body 1,60x0,80mm, IPC High Density)
pins: 1, 2

## CL0603_4.7uF_10V
designator C?, comment 4.7µF
4.7µF ±10% 10V Ceramic Capacitor X5R 0603 (1608 Metric); Manufacturer: Samsung Electro-Mechanics; Manufacturer Part Number: CL10A475KP8NNNC; Dielectric: X7R; Voltage: 10V; Value: 4.7µF; Supplier 1: Digi-Key; Supplier Part Number 1: 1276-1044-1-ND
footprint C0603_IPC_MD (Chip Capacitor, 2-Leads, Body 1,60x0,80mm, IPC Medium Density)
footprint C0603_IPC_HD (Chip Capacitor, 2-Leads, Body 1,60x0,80mm, IPC High Density)
pins: 1, 2

## CL0603_6.8nF_50V
designator C?, comment 6800pF
CAP CER 6800PF 50V X7R 0603; Manufacturer: TDK Corporation; Manufacturer Part Number: C1608X7R1H682M; Voltage: 50V; Value: 6800pF; Dielectric: X7R; Supplier 1: Digi-Key; Supplier Part Number 1: 445-5088-1-ND
footprint C0603_IPC_HD (Chip Capacitor, 2-Leads, Body 1,60x0,80mm, IPC High Density)
footprint C0603_IPC_MD (Chip Capacitor, 2-Leads, Body 1,60x0,80mm, IPC Medium Density)
pins: 1, 2

## CL0603_10n_50V
designator C?, comment 10nF
10000pF ±10% 50V Ceramic Capacitor X7R 0603 (1608 Metric); Manufacturer: Wurth Electronics Inc.; Manufacturer Part Number: 885012206089; Voltage: 50V; Value: 10nF; Dielectric: X7R; Supplier 1: Digi-Key; Supplier Part Number 1: 732-8007-1-ND
footprint C0603_IPC_MD (Chip Capacitor, 2-Leads, Body 1,60x0,80mm, IPC Medium Density)
footprint C0603_IPC_HD (Chip Capacitor, 2-Leads, Body 1,60x0,80mm, IPC High Density)
pins: 1, 2

## CL0603_10pF
designator C?, comment 10pF
10pF ±5% 50V Ceramic Capacitor C0G, NP0 0603 (ISL9237); Manufacturer: Wurth Electronics Inc.; Manufacturer Part Number: 885012006051; Dielectric: X7R; Voltage: 50V; Value: 10pF; Supplier 1: Digi-Key; Supplier Part Number 1: 732-7793-1-ND
footprint C0603_IPC_MD (Chip Capacitor, 2-Leads, Body 1,60x0,80mm, IPC Medium Density)
footprint C0603_IPC_HD (Chip Capacitor, 2-Leads, Body 1,60x0,80mm, IPC High Density)
pins: 1, 2

## CL0603_12pF_50V
designator C?, comment 12pF
12pF ±5% 50V Ceramic Capacitor C0G, NP0 0603 (1608 Metric); Manufacturer: Samsung Electro-Mechanics; Manufacturer Part Number: CL10C120JB8NNNC; Voltage: 50V; Value: 12pF; Dielectric: C0G, NP0; Supplier 1: Digi-Key; Supplier Part Number 1: 1276-1254-1-ND
footprint C0603_IPC_HD (Chip Capacitor, 2-Leads, Body 1,60x0,80mm, IPC High Density)
footprint C0603_IPC_MD (Chip Capacitor, 2-Leads, Body 1,60x0,80mm, IPC Medium Density)
pins: 1, 2

## CL0603_22pF_50V
designator C?, comment 22pF
CAP CER 22PF 50V C0G/NP0 0603; Manufacturer: Wurth Electronics Inc.; Manufacturer Part Number: 885012006053; Dielectric: X7R; Voltage: 50V; Value: 22pF; Supplier 1: Digi-Key; Supplier Part Number 1: 732-7795-1-ND
footprint C0603_IPC_HD (Chip Capacitor, 2-Leads, Body 1,60x0,80mm, IPC High Density)
footprint C0603_IPC_MD (Chip Capacitor, 2-Leads, Body 1,60x0,80mm, IPC Medium Density)
pins: 1, 2

## CL0603_22uF_10V
designator C?, comment 22µF
CAP CER 22UF 10V X5R 0603; Manufacturer: Murata Electronics North America; Manufacturer Part Number: GRM188R61A226ME15D; Dielectric: X7R; Voltage: 10V; Value: 22µF; Supplier 1: Digi-Key; Supplier Part Number 1: 490-10476-1-ND
footprint C0603_IPC_MD (Chip Capacitor, 2-Leads, Body 1,60x0,80mm, IPC Medium Density)
footprint C0603_IPC_HD (Chip Capacitor, 2-Leads, Body 1,60x0,80mm, IPC High Density)
pins: 1, 2

## CL0603_39pF_50V
designator C?, comment 39pF
CAP CER 39PF 50V C0G/NP0 0603; Manufacturer: Samsung Electro-Mechanics; Manufacturer Part Number: CL10C390JB8NNNC; Dielectric: X7R; Voltage: 50V; Value: 39pF; Supplier 1: Digi-Key; Supplier Part Number 1: 1276-1087-1-ND
footprint C0603_IPC_HD (Chip Capacitor, 2-Leads, Body 1,60x0,80mm, IPC High Density)
pins: 1, 2

## CL0603_47nF_25V
designator C?, comment 0.047µF
0.047µF ±10% 25V Ceramic Capacitor X7R 0603 (1608 Metric); Manufacturer: Wurth Electronics Inc.; Manufacturer Part Number: 885012206069; Voltage: 25V; Value: 0.047µF; Dielectric: X7R; Supplier 1: Digi-Key; Supplier Part Number 1: 732-7987-1-ND
footprint C0603_IPC_MD (Chip Capacitor, 2-Leads, Body 1,60x0,80mm, IPC Medium Density)
footprint C0603_IPC_HD (Chip Capacitor, 2-Leads, Body 1,60x0,80mm, IPC High Density)
pins: 1, 2

## CL0603_120nF_25V
designator C?, comment 0.12uF
CAP CER 0.12UF 25V X7R 0603; Manufacturer: Murata Electronics North America; Manufacturer Part Number: GRM188R71E124KA01D; Voltage: 25V; Value: 0.12uF; Dielectric: X7R; Supplier 1: Digi-Key; Supplier Part Number 1: 490-6430-1-ND
footprint C0603_IPC_HD (Chip Capacitor, 2-Leads, Body 1,60x0,80mm, IPC High Density)
footprint C0603_IPC_MD (Chip Capacitor, 2-Leads, Body 1,60x0,80mm, IPC Medium Density)
pins: 1, 2

## CL0603_270pF_50V
designator C?, comment 270pF
CAP CER 270PF 50V X7R 0603; Manufacturer: Samsung Electro-Mechanics; Manufacturer Part Number: CL10B271KB8NNNC; Voltage: 50V; Value: 270pF; Dielectric: X7R; Supplier 1: Digi-Key; Supplier Part Number 1: 1276-2019-1-ND
footprint C0603_IPC_HD (Chip Capacitor, 2-Leads, Body 1,60x0,80mm, IPC High Density)
footprint C0603_IPC_MD (Chip Capacitor, 2-Leads, Body 1,60x0,80mm, IPC Medium Density)
pins: 1, 2

## CL0603_2700pF_50V
designator C?, comment 2700pF
CAP CER 2700PF 50V X7R 0603; Manufacturer: Yageo; Manufacturer Part Number: CC0603KRX7R9BB272; Voltage: 50V; Value: 2700pF; Dielectric: X7R; Supplier 1: Digi-Key; Supplier Part Number 1: 311-1809-1-ND
footprint C0603_IPC_HD (Chip Capacitor, 2-Leads, Body 1,60x0,80mm, IPC High Density)
pins: 1, 2

## CL0603_4700pF_50V
designator C?, comment 4700pF
4700pF ±10% 50V Ceramic Capacitor X7R 0603 (1608 Metric); Manufacturer: Wurth Electronics Inc.; Manufacturer Part Number: 885012206087; Voltage: 50V; Value: 4700pF; Dielectric: X7R; Supplier 1: Digi-Key; Supplier Part Number 1: 732-8005-1-ND
footprint C0603_IPC_MD (Chip Capacitor, 2-Leads, Body 1,60x0,80mm, IPC Medium Density)
footprint C0603_IPC_HD (Chip Capacitor, 2-Leads, Body 1,60x0,80mm, IPC High Density)
pins: 1, 2

## CL0805_10uF_25V
designator C?, comment 10uF
10µF ±10% 25V Ceramic Capacitor X5R 0805 (2012 Metric); Manufacturer: Taiyo Yuden; Manufacturer Part Number: TMK212BBJ106KG-T; Dielectric: X7R; Voltage: 25V; Value: 10uF; Supplier 1: Digi-Key; Supplier Part Number 1: 587-2985-1-ND
footprint C0805_IPC_MD (Chip Capacitor, 2-Leads, Body 2,00x1,25mm, IPC Medium Density)
footprint C0805_IPC_HD (Chip Capacitor, 2-Leads, Body 2,00x1,25mm, IPC High Density)
pins: 1, 2

## CL1206_10nF_1000V
designator C?, comment 10nF
CAP CER 10000PF 1000V X7R 1206; Manufacturer: Wurth Electronics Inc.; Manufacturer Part Number: 885342208021; Voltage: 1000V; Value: 10nF; Dielectric: X7R; Supplier 1: Digi-Key; Supplier Part Number 1: 732-12078-1-ND
footprint Chip2Pin1206_10n
footprint C1206_IPC_HD (Chip Capacitor, 2-Leads, Body 3,20x1,60mm, IPC High Density)
footprint C1206_IPC_MD (Chip Capacitor, 2-Leads, Body 3,20x1,60mm, IPC Medium Density)
pins: 1, 2

## CL1206_47uF_10V
designator C?, comment 47µF
CAP CER 47UF 10V X5R 1206; Manufacturer: Samsung Electro-Mechanics; Manufacturer Part Number: CL31A476MPHNNNE; Dielectric: X7R; Voltage: 10V; Value: 47µF; Supplier 1: Digi-Key; Supplier Part Number 1: 1276-3063-1-ND
footprint C1206_IPC_HD (Chip Capacitor, 2-Leads, Body 3,20x1,60mm, IPC High Density)
footprint C1206_IPC_MD (Chip Capacitor, 2-Leads, Body 3,20x1,60mm, IPC Medium Density)
pins: 1, 2

## CM3
designator M?  (mechanical)
COMPUTE MODULE RASPBERRYPI3; Manufacturer: Raspberry Pi; Manufacturer Part Number: CM3; Supplier 1: Digi-Key; Supplier Part Number 1: 1690-1016-ND

## CM3 LITE
designator M?  (mechanical)
COMPUTE MODULE RASPBERRYPI3 LITE; Manufacturer: Raspberry Pi; Manufacturer Part Number: CM3 LITE; Supplier 1: Digi-Key; Supplier Part Number 1: 1690-1017-ND

## CP22uF_16V
designator C?, comment 22µF
CAP 22 UF 20% 16 V; Manufacturer: Wurth Electronics Inc.; Manufacturer Part Number: 865080340003; Voltage: 16V; Dielectric: X7R; Value: 22µF; Supplier 1: Digi-Key; Supplier Part Number 1: 732-8413-1-ND
footprint CP22uF_16VCAPAE4643X55M (Aluminum Electrolytic Capacitor, Body 4,30x4,30x5,50mm, IPC Low Density)
pins: 1, 2

## CP68uF_16V
designator C?, comment 68µF
68µF 16V Aluminum Electrolytic Capacitors Radial, Can - SMD  2000 Hrs @ 105°C; Manufacturer: Panasonic Electronic Components; Manufacturer Part Number: EEE-FK1C680P; Dielectric: X7R; Voltage: 16V; Value: 68µF; Supplier 1: Digi-Key; Supplier Part Number 1: PCE3793CT-ND
footprint EEE-FK1CP68uF_CAPAE6666X58M (Aluminum Electrolytic Capacitor, Body 7,00x6,60x5,80mm, IPC Low Density)
pins: 1, 2

## CP100uF_16V
designator C?, comment 100uF
CAP ALUM 100UF 20% 16V SMD; Manufacturer: Panasonic Electronic Components; Manufacturer Part Number: EEE-HC1C101XP; Dielectric: X7R; Voltage: 16V; Value: 100uF; Supplier 1: Digi-Key; Supplier Part Number 1: PCE3750CT-ND
footprint CAPAE7866X77_100uF16V (Aluminum Electrolytic Capacitor, Body 6,60x6,60x7,70mm, IPC Low Density)
pins: 1, 2

## CP2102N-A01-GQFN28R
designator U?
USB Bridge, USB to UART USB 2.0 UART Interface 28-QFN (5x5); Manufacturer: Silicon Labs; Manufacturer Part Number: CP2102N-A01-GQFN28R; Supplier 1: Digi-Key; Supplier Part Number 1: 336-4738-1-ND
footprint CP2102\9_QFN50P500X500X80_HS-29N (QFN, 28-Leads, Body 5,00x5,00mm, Pitch 0,50mm, Thermal Pad 3,35x3,35mm, IPC Medium Density)
pins: 1 DCD, 2 RI/CLK, 3 GND, 4 D+, 5 D-, 6 VDD, 7 VREGIN, 8 VBUS, 9 ~{RESET}, 10 NC, 11 ~{SUSPEND}, 12 SUSPEND, 13 CHREN, 14 CHR1, 15 CHR0, 16 GPIO.3/WAKEUP, 17 GPIO.2/RS485, 18 GPIO.1/RXT, 19 GPIO.0/TXT, 20 GPIO.6, 21 GPIO.5, 22 GPIO.4, 23 CTS, 24 RTS, 25 RXD, 26 TXD, 27 DSR, 28 DTR, 29 PGND

## CP2102N-A02-GQFN24
designator U?
USB Bridge, USB to UART USB 2.0 UART Interface 24-QFN (4x4); Manufacturer: Silicon Labs; Manufacturer Part Number: CP2102N-A02-GQFN24; Supplier 1: Digi-Key; Supplier Part Number 1: 336-5887-ND
footprint CP2102_QFN50P400X400X80_HS-25N (QFN, 24-Leads, Body 4,00x4,00mm, Pitch 0,50mm, Thermal Pad 2,55x2,55mm, IPC Medium Density)
pins: 1 RI/CLK, 2 GND, 3 D+, 4 D-, 5 VIO, 6 VDD, 7 VREGIN, 8 VBUS, 9 RSTb, 10 NC, 11 GPIO.3/WAKEUP, 12 GPIO.2/RS485, 13 GPIO.1/RXT, 14 GPIO.0/TXT, 15 SUSPENDb, 16 NC, 17 SUSPEND, 18 CTS, 19 RTS, 20 RXD, 21 TXD, 22 DSR, 23 DTR, 24 DCD, 25 PGND

## CPT68uF_16V
designator C?, comment 68µF
68µF Molded Tantalum Polymer Capacitor 16V 2917 (7343 Metric) 50 mOhm; Manufacturer: AVX Corporation; Manufacturer Part Number: TCJY686M016R0050; Dielectric: X7R; Voltage: 16V; Value: 68µF; Supplier 1: Digi-Key; Supplier Part Number 1: 478-9518-1-ND
footprint TCJY686_CAPMP7343X21N (Molded Capacitor, 2-Leads, Body 7,30x4,30mm, IPC Medium Density)
pins: 1, 2

## CR0603-FX-3302
designator R?, comment 33k
RES SMD 33K OHM 1% 1/10W 0603; Manufacturer: Bourns Inc.; Manufacturer Part Number: CR0603-FX-3302ELF; Value: 33k; Tolarance: ±1%; Supplier 1: Digi-Key; Supplier Part Number 1: YAG3389TR-ND
footprint C0603_IPC_MD (Chip Capacitor, 2-Leads, Body 1,60x0,80mm, IPC Medium Density)
footprint C0603_IPC_HD (Chip Capacitor, 2-Leads, Body 1,60x0,80mm, IPC High Density)
pins: 1, 2

## CR0603-J/-000ELF
designator R?, comment 0R
RES SMD 0 OHM JUMPER 1/10W 0603; Manufacturer: Bourns Inc.; Manufacturer Part Number: CR0603-J/-000ELF; Tolarance: 1%; Value: 0R; Supplier 1: Digi-Key; Supplier Part Number 1: CR0603-J/-000ELFCT-ND
footprint C0603_IPC_HD (Chip Capacitor, 2-Leads, Body 1,60x0,80mm, IPC High Density)
footprint C0805_IPC_MD (Chip Capacitor, 2-Leads, Body 2,00x1,25mm, IPC Medium Density)
pins: 1, 2

## CR0603-JW-1k_ISL92
designator R?, comment 1 k
1 kOhms ±1% 0.1W, 1/10W Chip Resistor 0603 (1608 Metric) Automotive AEC-Q200 Thick Film; Manufacturer: Stackpole Electronics Inc; Manufacturer Part Number: RMCF0603FT1K00; Value: 1 k; Tolarance: ±1%; Supplier 1: Digi-Key; Supplier Part Number 1: RMCF0603FT1K00CT-ND
footprint R0603_IPC_HD (Chip Resistor, 2-Leads, Body 1,60x0,80mm, IPC Medium Density)
footprint R0603_IPC_MD (Chip Resistor, 2-Leads, Body 1,60x0,80mm, IPC Medium Density)
pins: 1, 2

## CR0603-JW-2R
designator R?, comment 2R
2 Ohms ±1% 0.125W, 1/8W Chip Resistor 0603 (1608 Metric) Automotive AEC-Q200 Thick Film; Manufacturer: KOA Speer Electronics, Inc.; Manufacturer Part Number: RK73H1JTTD2R00F; Value: 2R; Tolarance: ±1%; Supplier 1: Digi-Key; Supplier Part Number 1: 2019-RK73H1JTTD2R00FCT-ND
footprint C0603_IPC_HD (Chip Capacitor, 2-Leads, Body 1,60x0,80mm, IPC High Density)
footprint C0603_IPC_MD (Chip Capacitor, 2-Leads, Body 1,60x0,80mm, IPC Medium Density)
pins: 1, 2

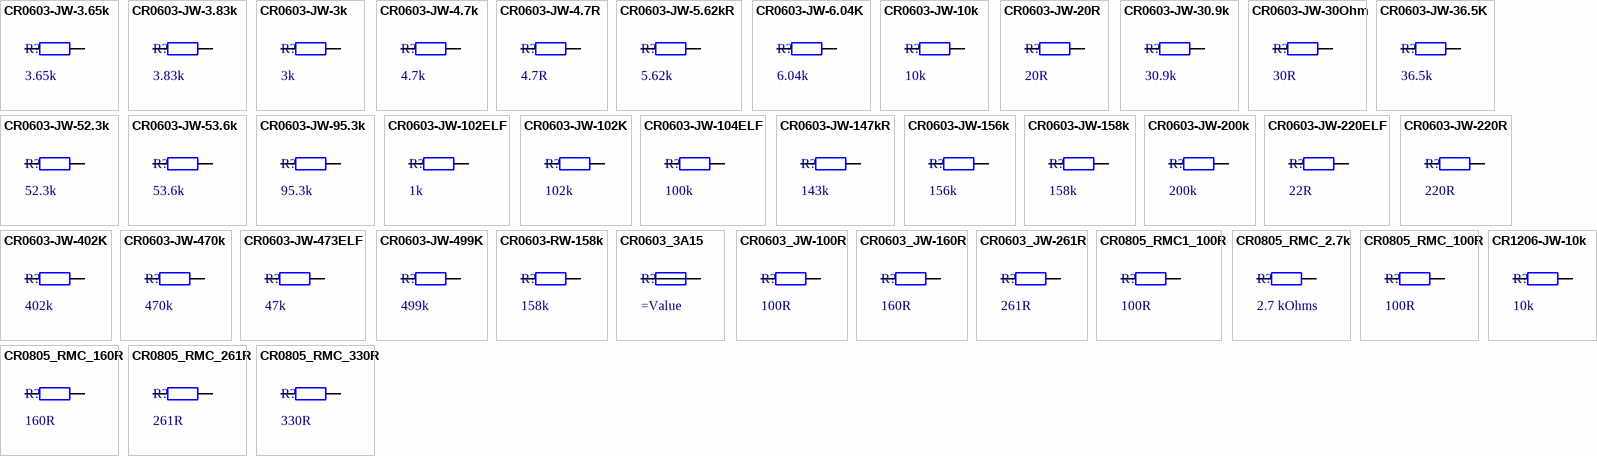
[diagram p3: symbols CR0603-JW-3.65k to CR1206-JW-10k]

## CR0603-JW-3.65k
designator R?, comment 3.65k
RES SMD 3.65K OHM 1% 1/10W 0603; Manufacturer: Yageo; Manufacturer Part Number: RC0603FR-073K65L; Value: 3.65k; Tolarance: ±1%; Supplier 1: Digi-Key; Supplier Part Number 1: 311-3.65KHRCT-ND
footprint C0603_IPC_HD (Chip Capacitor, 2-Leads, Body 1,60x0,80mm, IPC High Density)
pins: 1, 2

## CR0603-JW-3.83k
designator R?, comment 3.83k
RES SMD 3.83K OHM 1% 1/10W 0603; Manufacturer: Yageo; Manufacturer Part Number: RC0603FR-073K83L; Value: 3.83k; Tolarance: ±1%; Supplier 1: Digi-Key; Supplier Part Number 1: 311-3.83KHRCT-ND
footprint C0603_IPC_HD (Chip Capacitor, 2-Leads, Body 1,60x0,80mm, IPC High Density)
pins: 1, 2

## CR0603-JW-3k
designator R?, comment 3k
RES SMD 3K OHM 5% 1/10W 0603; Manufacturer: Bourns Inc.; Manufacturer Part Number: CR0603-JW-302ELF; Value: 3k; Tolarance: ±5%; Supplier 1: Digi-Key; Supplier Part Number 1: CR0603-JW-302ELFCT-ND
footprint C0603_IPC_HD (Chip Capacitor, 2-Leads, Body 1,60x0,80mm, IPC High Density)
footprint C0603_IPC_MD (Chip Capacitor, 2-Leads, Body 1,60x0,80mm, IPC Medium Density)
pins: 1, 2

## CR0603-JW-4.7k
designator R?, comment 4.7k
RES SMD 4.7K OHM 5% 1/10W 0603; Manufacturer: Bourns Inc.; Manufacturer Part Number: CR0603-JW-472ELF; Value: 4.7k; Tolarance: ±5%; Supplier 1: Digi-Key; Supplier Part Number 1: CR0603-JW-472ELFCT-ND
footprint R0603_IPC_HD (Chip Resistor, 2-Leads, Body 1,60x0,80mm, IPC Medium Density)
footprint R0603_IPC_MD (Chip Resistor, 2-Leads, Body 1,60x0,80mm, IPC Medium Density)
pins: 1, 2

## CR0603-JW-4.7R
designator R?, comment 4.7R
RES 4.7 OHM 1% 1/10W 0603; Manufacturer: Stackpole Electronics Inc; Manufacturer Part Number: RMCF0603FT4R70; Value: 4.7R; Tolarance: ±1%; Supplier 1: Digi-Key; Supplier Part Number 1: RMCF0603FT4R70CT-ND
footprint R0603_IPC_HD (Chip Resistor, 2-Leads, Body 1,60x0,80mm, IPC Medium Density)
footprint R0603_IPC_MD (Chip Resistor, 2-Leads, Body 1,60x0,80mm, IPC Medium Density)
pins: 1, 2

## CR0603-JW-5.62kR
designator R?, comment 5.62k
RES 5.62K OHM 1% 1/10W 0603; Manufacturer: Stackpole Electronics Inc; Manufacturer Part Number: RMCF0603FT5K62; Value: 5.62k; Tolarance: ±1%; Supplier 1: Digi-Key; Supplier Part Number 1: RMCF0603FT5K62CT-ND
footprint C0603_IPC_HD (Chip Capacitor, 2-Leads, Body 1,60x0,80mm, IPC High Density)
footprint C0603_IPC_MD (Chip Capacitor, 2-Leads, Body 1,60x0,80mm, IPC Medium Density)
pins: 1, 2

## CR0603-JW-6.04K
designator R?, comment 6.04k
RES 6.04K OHM 1% 1/10W 0603; Manufacturer: Stackpole Electronics Inc; Manufacturer Part Number: RMCF0603FT6K04; Value: 6.04k; Tolarance: ±1%; Supplier 1: Digi-Key; Supplier Part Number 1: RMCF0603FT6K04CT-ND
footprint C0603_IPC_HD (Chip Capacitor, 2-Leads, Body 1,60x0,80mm, IPC High Density)
footprint C0603_IPC_MD (Chip Capacitor, 2-Leads, Body 1,60x0,80mm, IPC Medium Density)
pins: 1, 2

## CR0603-JW-10k
designator R?, comment 10k
RES 10K OHM 1% 1/10W 0603; Manufacturer: Stackpole Electronics Inc; Manufacturer Part Number: RMCF0603FT10K0; Value: 10k; Tolarance: ±1%; Supplier 1: Digi-Key; Supplier Part Number 1: RMCF0603FT10K0CT-ND
footprint C0603_IPC_HD (Chip Capacitor, 2-Leads, Body 1,60x0,80mm, IPC High Density)
footprint C0603_IPC_MD (Chip Capacitor, 2-Leads, Body 1,60x0,80mm, IPC Medium Density)
pins: 1, 2

## CR0603-JW-20R
designator R?, comment 20R
RES 20 OHM 1% 1/10W 0603; Manufacturer: Stackpole Electronics Inc; Manufacturer Part Number: RMCF0603FT20R0; Value: 20R; Tolarance: ±1%; Supplier 1: Digi-Key; Supplier Part Number 1: RMCF0603FT20R0CT-ND
footprint C0603_IPC_HD (Chip Capacitor, 2-Leads, Body 1,60x0,80mm, IPC High Density)
footprint C0603_IPC_MD (Chip Capacitor, 2-Leads, Body 1,60x0,80mm, IPC Medium Density)
pins: 1, 2

## CR0603-JW-30.9k
designator R?, comment 30.9k
RES SMD 30.9K OHM 1% 1/10W 0603; Manufacturer: Yageo; Manufacturer Part Number: RC0603FR-0730K9L; Value: 30.9k; Tolarance: ±1%; Supplier 1: Digi-Key; Supplier Part Number 1: 311-30.9KHRCT-ND
footprint C0603_IPC_HD (Chip Capacitor, 2-Leads, Body 1,60x0,80mm, IPC High Density)
pins: 1, 2

## CR0603-JW-30Ohm
designator R?, comment 30R
RES SMD 30 OHM 5% 1/10W 0603; Manufacturer: Bourns Inc.; Manufacturer Part Number: CR0603-JW-300ELF; Value: 30R; Tolarance: ±5%; Supplier 1: Digi-Key; Supplier Part Number 1: CR0603-JW-300ELFCT-ND
footprint C0603_IPC_HD (Chip Capacitor, 2-Leads, Body 1,60x0,80mm, IPC High Density)
footprint C0603_IPC_MD (Chip Capacitor, 2-Leads, Body 1,60x0,80mm, IPC Medium Density)
pins: 1, 2

## CR0603-JW-36.5K
designator R?, comment 36.5k
RES 36.5K OHM 1% 1/10W 0603; Manufacturer: KOA Speer Electronics, Inc.; Manufacturer Part Number: RK73H1JTTD3652F; Value: 36.5k; Tolarance: ±1%; Supplier 1: Digi-Key; Supplier Part Number 1: 2019-RK73H1JTTD3652FCT-ND
footprint C0603_IPC_HD (Chip Capacitor, 2-Leads, Body 1,60x0,80mm, IPC High Density)
pins: 1, 2

## CR0603-JW-52.3k
designator R?, comment 52.3k
RES SMD 52.3K OHM 1% 1/10W 0603; Manufacturer: Yageo; Manufacturer Part Number: RC0603FR-0752K3L; Value: 52.3k; Tolarance: ±1%; Supplier 1: Digi-Key; Supplier Part Number 1: 311-52.3KHRCT-ND
footprint C0603_IPC_HD (Chip Capacitor, 2-Leads, Body 1,60x0,80mm, IPC High Density)
pins: 1, 2

## CR0603-JW-53.6k
designator R?, comment 53.6k
RES 53.6K OHM 1% 1/10W 0603; Manufacturer: KOA Speer Electronics, Inc.; Manufacturer Part Number: RK73H1JTTD5362F; Value: 53.6k; Tolarance: ±1%; Supplier 1: Digi-Key; Supplier Part Number 1: 2019-RK73H1JTTD5362FCT-ND
footprint C0603_IPC_HD (Chip Capacitor, 2-Leads, Body 1,60x0,80mm, IPC High Density)
pins: 1, 2

## CR0603-JW-95.3k
designator R?, comment 95.3k
RES 95.3K OHM 1% 1/10W 0603; Manufacturer: Stackpole Electronics Inc; Manufacturer Part Number: RMCF0603FT95K3; Value: 95.3k; Tolarance: ±1%; Supplier 1: Digi-Key; Supplier Part Number 1: RMCF0603FT95K3CT-ND
footprint C0603_IPC_HD (Chip Capacitor, 2-Leads, Body 1,60x0,80mm, IPC High Density)
footprint C0603_IPC_MD (Chip Capacitor, 2-Leads, Body 1,60x0,80mm, IPC Medium Density)
pins: 1, 2

## CR0603-JW-102ELF
designator R?, comment 1k
RES SMD 1K OHM 5% 1/10W 0603; Manufacturer: Bourns Inc.; Manufacturer Part Number: CR0603-JW-102ELF; Value: 1k; Tolarance: 5%; Supplier 1: Digi-Key; Supplier Part Number 1: CR0603-JW-102ELFCT-ND
footprint C0603_IPC_HD (Chip Capacitor, 2-Leads, Body 1,60x0,80mm, IPC High Density)
footprint C0603_IPC_MD (Chip Capacitor, 2-Leads, Body 1,60x0,80mm, IPC Medium Density)
pins: 1, 2

## CR0603-JW-102K
designator R?, comment 102k
RES 102K OHM 1% 1/10W 0603; Manufacturer: KOA Speer Electronics, Inc.; Manufacturer Part Number: RK73H1JTTD1023F; Value: 102k; Tolarance: ±1%; Supplier 1: Digi-Key; Supplier Part Number 1: 2019-RK73H1JTTD1023FCT-ND
footprint C0603_IPC_HD (Chip Capacitor, 2-Leads, Body 1,60x0,80mm, IPC High Density)
pins: 1, 2

## CR0603-JW-104ELF
designator R?, comment 100k
RES 100K OHM 1% 1/10W 0603; Manufacturer: Stackpole Electronics Inc; Manufacturer Part Number: RMCF0603FT100K; Value: 100k; Tolarance: ±1%; Supplier 1: Digi-Key; Supplier Part Number 1: RMCF0603FT100KCT-ND
footprint C0603_IPC_HD (Chip Capacitor, 2-Leads, Body 1,60x0,80mm, IPC High Density)
footprint C0603_IPC_MD (Chip Capacitor, 2-Leads, Body 1,60x0,80mm, IPC Medium Density)
footprint R0603_IPC_MD (Chip Resistor, 2-Leads, Body 1,60x0,80mm, IPC Medium Density)
pins: 1, 2

## CR0603-JW-147kR
designator R?, comment 143k
RES 143K OHM 1% 1/10W 0603; Manufacturer: Stackpole Electronics Inc; Manufacturer Part Number: RMCF0603FT143K; Value: 143k; Tolarance: ±1%; Supplier 1: Digi-Key; Supplier Part Number 1: RMCF0603FT143KCT-ND
footprint C0603_IPC_HD (Chip Capacitor, 2-Leads, Body 1,60x0,80mm, IPC High Density)
footprint C0603_IPC_MD (Chip Capacitor, 2-Leads, Body 1,60x0,80mm, IPC Medium Density)
pins: 1, 2

## CR0603-JW-156k
designator R?, comment 156k
RES 156K OHM 0.1% 1/5W 0805; Manufacturer: Vishay Thin Film; Manufacturer Part Number: PTN0805E1563BST1; Value: 156k; Tolarance: ±0.1%; Supplier 1: Digi-Key; Supplier Part Number 1: 764-1485-1-ND
footprint C0603_IPC_HD (Chip Capacitor, 2-Leads, Body 1,60x0,80mm, IPC High Density)
footprint C0603_IPC_MD (Chip Capacitor, 2-Leads, Body 1,60x0,80mm, IPC Medium Density)
pins: 1, 2

## CR0603-JW-158k
designator R?, comment 158k
58K ±1% 1/10W ±100ppm/℃ 0603; Manufacturer: PANASONIC; Manufacturer Part Number: ERJ3EKF1583V; Value: 158k; Tolarance: 1%; Supplier 1: LCSC; Supplier Part Number 1: C403004
footprint R0603_IPC_HD (Chip Resistor, 2-Leads, Body 1,60x0,80mm, IPC Medium Density)
footprint R0603_IPC_MD (Chip Resistor, 2-Leads, Body 1,60x0,80mm, IPC Medium Density)
pins: 1, 2

## CR0603-JW-200k
designator R?, comment 200k
RES 200K OHM 1% 1/10W 0603; Manufacturer: Stackpole Electronics Inc; Manufacturer Part Number: RMCF0603FT200K; Value: 200k; Tolarance: ±1%; Supplier 1: Digi-Key; Supplier Part Number 1: RMCF0603FT200KCT-ND
footprint C0603_IPC_HD (Chip Capacitor, 2-Leads, Body 1,60x0,80mm, IPC High Density)
footprint C0603_IPC_MD (Chip Capacitor, 2-Leads, Body 1,60x0,80mm, IPC Medium Density)
pins: 1, 2

## CR0603-JW-220ELF
designator R?, comment 22R
RES SMD 22 OHM 5% 1/10W 0603; Manufacturer: Bourns Inc.; Manufacturer Part Number: CR0603-JW-220ELF; Value: 22R; Tolarance: 5%; Supplier 1: Digi-Key; Supplier Part Number 1: CR0603-JW-220ELFCT-ND
footprint C0603_IPC_HD (Chip Capacitor, 2-Leads, Body 1,60x0,80mm, IPC High Density)
footprint C0603_IPC_MD (Chip Capacitor, 2-Leads, Body 1,60x0,80mm, IPC Medium Density)
pins: 1, 2

## CR0603-JW-220R
designator R?, comment 220R
RES 220 OHM 1% 1/10W 0603; Manufacturer: Stackpole Electronics Inc; Manufacturer Part Number: RMCF0603FT220R; Value: 220R; Tolarance: ±1%; Supplier 1: Digi-Key; Supplier Part Number 1: RMCF0603FT220RCT-ND
footprint C0603_IPC_HD (Chip Capacitor, 2-Leads, Body 1,60x0,80mm, IPC High Density)
footprint C0603_IPC_MD (Chip Capacitor, 2-Leads, Body 1,60x0,80mm, IPC Medium Density)
pins: 1, 2

## CR0603-JW-402K
designator R?, comment 402k
RES 402K OHM 1% 1/10W 0603; Manufacturer: Stackpole Electronics Inc; Manufacturer Part Number: RMCF0603FT402K; Value: 402k; Tolarance: ±1%; Supplier 1: Digi-Key; Supplier Part Number 1: RMCF0603FT402KCT-ND
footprint C0603_IPC_HD (Chip Capacitor, 2-Leads, Body 1,60x0,80mm, IPC High Density)
footprint C0603_IPC_MD (Chip Capacitor, 2-Leads, Body 1,60x0,80mm, IPC Medium Density)
pins: 1, 2

## CR0603-JW-470k
designator R?, comment 470k
RES SMD 470K OHM 5% 1/10W 0603; Manufacturer: Bourns Inc.; Manufacturer Part Number: CR0603-JW-474ELF; Value: 470k; Tolarance: ±5%; Supplier 1: Digi-Key; Supplier Part Number 1: CR0603-JW-474ELFCT-ND
footprint C0603_IPC_HD (Chip Capacitor, 2-Leads, Body 1,60x0,80mm, IPC High Density)
footprint C0603_IPC_MD (Chip Capacitor, 2-Leads, Body 1,60x0,80mm, IPC Medium Density)
pins: 1, 2

## CR0603-JW-473ELF
designator R?, comment 47k
RES SMD 47K OHM 5% 1/10W 0603; Manufacturer: Bourns Inc.; Manufacturer Part Number: CR0603-JW-473ELF; Value: 47k; Tolarance: 5%; Supplier 1: Digi-Key; Supplier Part Number 1: CR0603-JW-473ELFCT-ND
footprint R0603_IPC_HD (Chip Resistor, 2-Leads, Body 1,60x0,80mm, IPC Medium Density)
footprint R0603_IPC_MD (Chip Resistor, 2-Leads, Body 1,60x0,80mm, IPC Medium Density)
pins: 1, 2

## CR0603-JW-499K
designator R?, comment 499k
RES 499K OHM 1% 1/10W 0603; Manufacturer: Stackpole Electronics Inc; Manufacturer Part Number: RMCF0603FT499K; Value: 499k; Tolarance: ±1%; Supplier 1: Digi-Key; Supplier Part Number 1: RMCF0603FT499KCT-ND
footprint C0603_IPC_HD (Chip Capacitor, 2-Leads, Body 1,60x0,80mm, IPC High Density)
footprint C0603_IPC_MD (Chip Capacitor, 2-Leads, Body 1,60x0,80mm, IPC Medium Density)
pins: 1, 2

## CR0603-RW-158k
designator R?, comment 158k
RES SMD 158K OHM 1% 1/10W 0603; Manufacturer: Yageo; Manufacturer Part Number: RC0603FR-07158KL; Value: 158k; Tolarance: 1%; Supplier 1: digikey.com; Supplier Part Number 1: 311-158KHRCT-ND
footprint R0603_IPC_HD (Chip Resistor, 2-Leads, Body 1,60x0,80mm, IPC Medium Density)
footprint R0603_IPC_MD (Chip Resistor, 2-Leads, Body 1,60x0,80mm, IPC Medium Density)
pins: 1, 2

## CR0603_3A15
designator R?
FUSE BOARD MNT 3.15A 32VDC 0603; Manufacturer: Panasonic Electronic Components; Manufacturer Part Number: ERB-RE3R15V; Current Rating: 3.15A; Supplier 1: Digi-Key; Supplier Part Number 1: P121393CT-ND
footprint C0603_IPC_MD (Chip Capacitor, 2-Leads, Body 1,60x0,80mm, IPC Medium Density)
pins: 1, 2

## CR0603_JW-100R
designator R?, comment 100R
RES 100 OHM 1% 1/10W 0603; Manufacturer: Stackpole Electronics Inc; Manufacturer Part Number: RMCF0603FG100R; Value: 100R; Tolarance: 1%; Supplier 1: Digi-Key; Supplier Part Number 1: RMCF0603FG100RCT-ND
footprint C0603_IPC_HD (Chip Capacitor, 2-Leads, Body 1,60x0,80mm, IPC High Density)
footprint C0603_IPC_MD (Chip Capacitor, 2-Leads, Body 1,60x0,80mm, IPC Medium Density)
pins: 1, 2

## CR0603_JW-160R
designator R?, comment 160R
RES 160 OHM 1% 1/10W 0603; Manufacturer: Stackpole Electronics Inc; Manufacturer Part Number: RMCF0603FT160R; Value: 160R; Tolarance: 1%; Supplier 1: Digi-Key; Supplier Part Number 1: RMCF0603FT160RCT-ND
footprint C0603_IPC_HD (Chip Capacitor, 2-Leads, Body 1,60x0,80mm, IPC High Density)
footprint C0603_IPC_MD (Chip Capacitor, 2-Leads, Body 1,60x0,80mm, IPC Medium Density)
pins: 1, 2

## CR0603_JW-261R
designator R?, comment 261R
RES 261 OHM 1% 1/10W 0603; Manufacturer: Stackpole Electronics Inc; Manufacturer Part Number: RMCF0603FT261R; Value: 261R; Tolarance: 1%; Supplier 1: Digi-Key; Supplier Part Number 1: RMCF0603FT261RCT-ND
footprint C0603_IPC_HD (Chip Capacitor, 2-Leads, Body 1,60x0,80mm, IPC High Density)
footprint C0603_IPC_MD (Chip Capacitor, 2-Leads, Body 1,60x0,80mm, IPC Medium Density)
pins: 1, 2